# EAGLE library part SGM8052 (library SGMicro_SGM80xx)
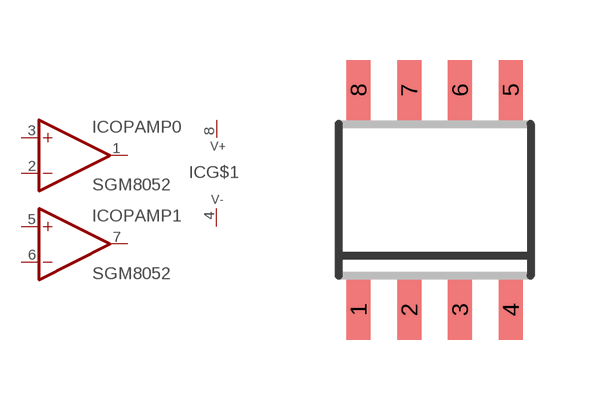
[diagram p0: symbol with the pads of SOIC8; footprint SOIC8]

Designator prefix IC; gates OPAMP0=OPAMP OPAMP1=OPAMP G$1=PWRN

## SGM8052  [SOIC8]
1  OPAMP0:OUT  out
2  OPAMP0:-IN  in
3  OPAMP0:+IN  in
4  G$1:V-  pwr
5  OPAMP1:+IN  in
6  OPAMP1:-IN  in
7  OPAMP1:OUT  out
8  G$1:V+  pwr

## Footprint SOIC8 (pad centres in mm)
SOIC-8 CASE 751-07 Source: http://www.onsemi.com/pub/Collateral/MC34164-D.PDF D (R-PDSO-G8)PLATIC SMALL-OUTLINE PACKAGE Source: http://focus.ti.com/lit/ds/symlink/tlc27l2.pdf
smd 0.6 x 1.5: 1 -1.905,-2.75; 2 -0.635,-2.75; 3 0.635,-2.75; 4 1.905,-2.75; 5 1.905,2.75; 6 0.635,2.75; 7 -0.635,2.75; 8 -1.905,2.75